# Altium schematic symbol library UMK316BJ105KD-T.SchLib: 1 symbol
Pins are listed as number, name and electrical type; pins without a type are passive.

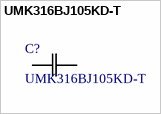
[diagram p0: symbol UMK316BJ105KD-T]

## UMK316BJ105KD-T
designator C?
Description; Manufacturer_Name: TAIYO YUDEN; Copyright: Copyright (C) 2025 Ultra Librarian. All rights reserved.; Manufacturer_Part_Number: UMK316BJ105KD-T
footprint CAP_UMK316ABJ475KD-T_TAY
pins: 1, 2